# Altium integrated library Linear Technology PMIC-Switching Reg LTC1174-LTC3901.IntLib: 2647 symbols (part 220 of 310)
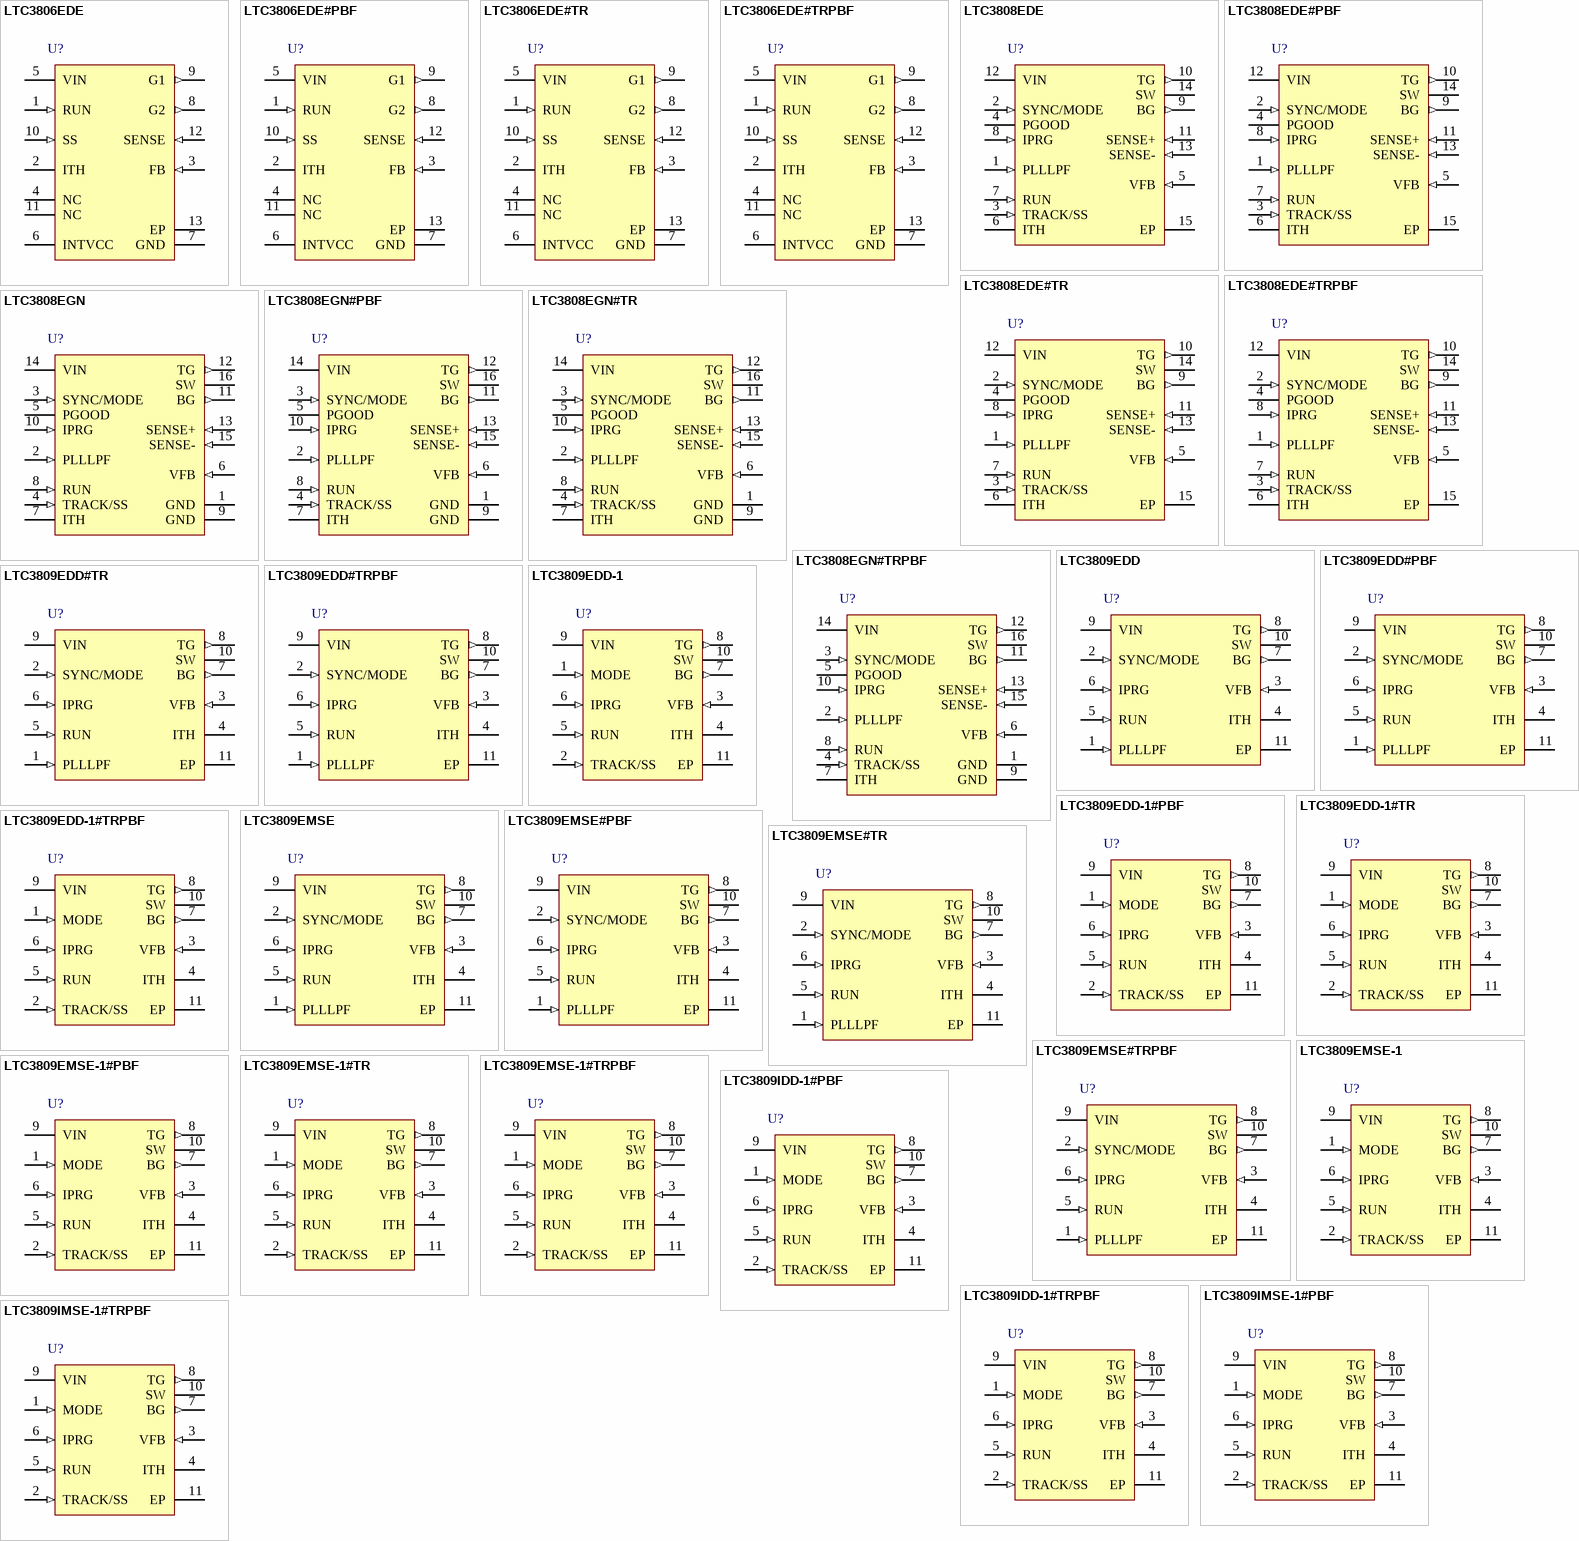
[diagram p244: symbols LTC3806EDE to LTC3809IMSE-1#TRPBF]

## LTC3809EDD-1
designator U?
No Rsense, Low Input Voltage, Synchronous DC/DC Controller with Output Tracking, 10-pin SON (DD-10), -40 to 85 degC; Manufacturer: Linear Technology; PartNumber: LTC3809EDD-1; Number of Outputs: 1; PackageReference: DD-10; PackageDescription: 10-Pin Plastic DFN, Body 3 x 3 mm, Pitch 0.5 mm; Supplier 1: Digi-Key; Supplier Part Number 1: LTC3809EDD-1-ND; RoHS: FALSE; Code_JEDEC: MO-229
footprint LT-DD-10_V (SON, 10-Leads, Body 3x3mm, Pitch 0.5mm, Thermal Pad 2.38x1.65mm)
pins: 1 MODE (in) "This pin performs two functions: 1) auxiliary winding feedback input, and 2) Burst Mode operation, pulse skipping or forced continuous mode select. To select Burst Mode operation at light loads, tie this pin to VIN. (See Datasheet)", 2 TRACK/SS (in) "Tracking Input for the Controller or Optional External Soft-Start Input. This pin allows the start-up of VOUT to “track” the external voltage at this pin using an external resistor divider. Tying this pin to VIN all(See Datasheet)", 3 VFB (in) "Feedback Pin. This pin receives the remotely sensed feedback voltage for the controller from an external resistor divider across the output.", 4 ITH "Current Threshold and Error Amplifier Compensation Point. Nominal operating range on this pin is from 0.7V to 2V. The voltage on this pin determines the threshold of the main current comparator.", 5 RUN (in) "Run Control Input. Forcing this pin below 1.1V shuts down the chip. Driving this pin to VIN or releasing this pin enables the chip to start-up with the internal soft-start.", 6 IPRG (in) "Three-State Pin to Select Maximum Peak Sense Voltage Threshold. This pin selects the maximum allowed voltage drop between the VIN and SW pins (i.e., the maximum allowed drop across the external P-channel MOSFET). Tie to VIN, (See Datasheet)", 7 BG (out) "Bottom (NMOS) Gate Drive Output. This pin drives the gate of the external N-channel MOSFET. This pin has an output swing from PGND to VIN.", 8 TG (out) "Top (PMOS) Gate Drive Output. This pin drives the gate of the external P-channel MOSFET. This pin has an output swing from PGND to VIN.", 9 VIN (power) "Chip Signal Power Supply. This pin powers the entire chip, the gate drivers and serves as the positive input to the differential current comparator.", 10 SW "Switch Node Connection to Inductor. This pin is also the negative input to the differential current comparator and an input to the reverse current comparator. Normally this pin is connected to the drain of the external (See Datasheet)", 11 EP (power) "Ground connection for internal circuits, the gate drivers and the negative input to the reverse current comparator. The Exposed Pad must be soldered to the PCB ground."

## LTC3809EDD-1#PBF
designator U?
No Rsense, Low Input Voltage, Synchronous DC/DC Controller with Output Tracking, 10-pin SON (DD-10), -40 to 85 degC, Pb-Free; Manufacturer: Linear Technology; PartNumber: LTC3809EDD-1#PBF; Number of Outputs: 1; PackageReference: DD-10; PackageDescription: 10-Pin Plastic DFN, Body 3 x 3 mm, Pitch 0.5 mm; Supplier 1: Digi-Key; Supplier Part Number 1: LTC3809EDD-1#PBF-ND; RoHS: TRUE; Code_JEDEC: MO-229
footprint LT-DD-10_V (SON, 10-Leads, Body 3x3mm, Pitch 0.5mm, Thermal Pad 2.38x1.65mm)
pins: 1 MODE (in) "This pin performs two functions: 1) auxiliary winding feedback input, and 2) Burst Mode operation, pulse skipping or forced continuous mode select. To select Burst Mode operation at light loads, tie this pin to VIN. (See Datasheet)", 2 TRACK/SS (in) "Tracking Input for the Controller or Optional External Soft-Start Input. This pin allows the start-up of VOUT to “track” the external voltage at this pin using an external resistor divider. Tying this pin to VIN all(See Datasheet)", 3 VFB (in) "Feedback Pin. This pin receives the remotely sensed feedback voltage for the controller from an external resistor divider across the output.", 4 ITH "Current Threshold and Error Amplifier Compensation Point. Nominal operating range on this pin is from 0.7V to 2V. The voltage on this pin determines the threshold of the main current comparator.", 5 RUN (in) "Run Control Input. Forcing this pin below 1.1V shuts down the chip. Driving this pin to VIN or releasing this pin enables the chip to start-up with the internal soft-start.", 6 IPRG (in) "Three-State Pin to Select Maximum Peak Sense Voltage Threshold. This pin selects the maximum allowed voltage drop between the VIN and SW pins (i.e., the maximum allowed drop across the external P-channel MOSFET). Tie to VIN, (See Datasheet)", 7 BG (out) "Bottom (NMOS) Gate Drive Output. This pin drives the gate of the external N-channel MOSFET. This pin has an output swing from PGND to VIN.", 8 TG (out) "Top (PMOS) Gate Drive Output. This pin drives the gate of the external P-channel MOSFET. This pin has an output swing from PGND to VIN.", 9 VIN (power) "Chip Signal Power Supply. This pin powers the entire chip, the gate drivers and serves as the positive input to the differential current comparator.", 10 SW "Switch Node Connection to Inductor. This pin is also the negative input to the differential current comparator and an input to the reverse current comparator. Normally this pin is connected to the drain of the external (See Datasheet)", 11 EP (power) "Ground connection for internal circuits, the gate drivers and the negative input to the reverse current comparator. The Exposed Pad must be soldered to the PCB ground."

## LTC3809EDD-1#TR
designator U?
No Rsense, Low Input Voltage, Synchronous DC/DC Controller with Output Tracking, 10-pin SON (DD-10), -40 to 85 degC, Tape and Reel; Manufacturer: Linear Technology; PartNumber: LTC3809EDD-1#TR; Number of Outputs: 1; PackageReference: DD-10; PackageDescription: 10-Pin Plastic DFN, Body 3 x 3 mm, Pitch 0.5 mm; Supplier 1: Digi-Key; Supplier Part Number 1: LTC3809EDD-1#TR-ND; RoHS: FALSE; Code_JEDEC: MO-229
footprint LT-DD-10_V (SON, 10-Leads, Body 3x3mm, Pitch 0.5mm, Thermal Pad 2.38x1.65mm)
pins: 1 MODE (in) "This pin performs two functions: 1) auxiliary winding feedback input, and 2) Burst Mode operation, pulse skipping or forced continuous mode select. To select Burst Mode operation at light loads, tie this pin to VIN. (See Datasheet)", 2 TRACK/SS (in) "Tracking Input for the Controller or Optional External Soft-Start Input. This pin allows the start-up of VOUT to “track” the external voltage at this pin using an external resistor divider. Tying this pin to VIN all(See Datasheet)", 3 VFB (in) "Feedback Pin. This pin receives the remotely sensed feedback voltage for the controller from an external resistor divider across the output.", 4 ITH "Current Threshold and Error Amplifier Compensation Point. Nominal operating range on this pin is from 0.7V to 2V. The voltage on this pin determines the threshold of the main current comparator.", 5 RUN (in) "Run Control Input. Forcing this pin below 1.1V shuts down the chip. Driving this pin to VIN or releasing this pin enables the chip to start-up with the internal soft-start.", 6 IPRG (in) "Three-State Pin to Select Maximum Peak Sense Voltage Threshold. This pin selects the maximum allowed voltage drop between the VIN and SW pins (i.e., the maximum allowed drop across the external P-channel MOSFET). Tie to VIN, (See Datasheet)", 7 BG (out) "Bottom (NMOS) Gate Drive Output. This pin drives the gate of the external N-channel MOSFET. This pin has an output swing from PGND to VIN.", 8 TG (out) "Top (PMOS) Gate Drive Output. This pin drives the gate of the external P-channel MOSFET. This pin has an output swing from PGND to VIN.", 9 VIN (power) "Chip Signal Power Supply. This pin powers the entire chip, the gate drivers and serves as the positive input to the differential current comparator.", 10 SW "Switch Node Connection to Inductor. This pin is also the negative input to the differential current comparator and an input to the reverse current comparator. Normally this pin is connected to the drain of the external (See Datasheet)", 11 EP (power) "Ground connection for internal circuits, the gate drivers and the negative input to the reverse current comparator. The Exposed Pad must be soldered to the PCB ground."

## LTC3809EDD-1#TRPBF
designator U?
No Rsense, Low Input Voltage, Synchronous DC/DC Controller with Output Tracking, 10-pin SON (DD-10), -40 to 85 degC, Pb-Free, Tape and Reel; Manufacturer: Linear Technology; PartNumber: LTC3809EDD-1#TRPBF; Number of Outputs: 1; PackageReference: DD-10; PackageDescription: 10-Pin Plastic DFN, Body 3 x 3 mm, Pitch 0.5 mm; Supplier 1: Digi-Key; Supplier Part Number 1: LTC3809EDD-1#TRPBF-ND; RoHS: TRUE; Code_JEDEC: MO-229
footprint LT-DD-10_V (SON, 10-Leads, Body 3x3mm, Pitch 0.5mm, Thermal Pad 2.38x1.65mm)
pins: 1 MODE (in) "This pin performs two functions: 1) auxiliary winding feedback input, and 2) Burst Mode operation, pulse skipping or forced continuous mode select. To select Burst Mode operation at light loads, tie this pin to VIN. (See Datasheet)", 2 TRACK/SS (in) "Tracking Input for the Controller or Optional External Soft-Start Input. This pin allows the start-up of VOUT to “track” the external voltage at this pin using an external resistor divider. Tying this pin to VIN all(See Datasheet)", 3 VFB (in) "Feedback Pin. This pin receives the remotely sensed feedback voltage for the controller from an external resistor divider across the output.", 4 ITH "Current Threshold and Error Amplifier Compensation Point. Nominal operating range on this pin is from 0.7V to 2V. The voltage on this pin determines the threshold of the main current comparator.", 5 RUN (in) "Run Control Input. Forcing this pin below 1.1V shuts down the chip. Driving this pin to VIN or releasing this pin enables the chip to start-up with the internal soft-start.", 6 IPRG (in) "Three-State Pin to Select Maximum Peak Sense Voltage Threshold. This pin selects the maximum allowed voltage drop between the VIN and SW pins (i.e., the maximum allowed drop across the external P-channel MOSFET). Tie to VIN, (See Datasheet)", 7 BG (out) "Bottom (NMOS) Gate Drive Output. This pin drives the gate of the external N-channel MOSFET. This pin has an output swing from PGND to VIN.", 8 TG (out) "Top (PMOS) Gate Drive Output. This pin drives the gate of the external P-channel MOSFET. This pin has an output swing from PGND to VIN.", 9 VIN (power) "Chip Signal Power Supply. This pin powers the entire chip, the gate drivers and serves as the positive input to the differential current comparator.", 10 SW "Switch Node Connection to Inductor. This pin is also the negative input to the differential current comparator and an input to the reverse current comparator. Normally this pin is connected to the drain of the external (See Datasheet)", 11 EP (power) "Ground connection for internal circuits, the gate drivers and the negative input to the reverse current comparator. The Exposed Pad must be soldered to the PCB ground."

## LTC3809EMSE
designator U?
No Rsense, Low EMI, Synchronous DC/DC Controller, 10-pin SOP (MSE-10-EDP), -40 to 85 degC; Manufacturer: Linear Technology; PartNumber: LTC3809EMSE; Number of Outputs: 1; PackageReference: MSE-10; PackageDescription: 10-Pin Plastic MSOP, Exposed Die Pad, Body 3 x 3 mm, Pitch 0.5 mm; Supplier 1: Digi-Key; Supplier Part Number 1: LTC3809EMSE-ND; RoHS: FALSE
footprint LT-MSE-10-EDP-2060x1830TP_N (SOP, 10-Leads, Body 3.1x3.1mm, Pitch 0.5mm, Thermal Pad 2.17x1.94mm, IPC Medium Density)
footprint LT-MSE-10-EDP-2060x1830TP_L (SOP, 10-Leads, Body 3.1x3.1mm, Pitch 0.5mm, Thermal Pad 2.17x1.94mm, IPC High Density)
footprint LT-MSE-10-EDP-2060x1830TP_M (SOP, 10-Leads, Body 3.1x3.1mm, Pitch 0.5mm, Thermal Pad 2.17x1.94mm, IPC Low Density)
pins: 1 PLLLPF (in) "Frequency Set/PLL Lowpass Filter. When synchronizing to an external clock, this pin serves as the lowpass filter point for the phase-locked loop. Normally, a series RC is connected between this pin and ground. When not (See Datasheet)", 2 SYNC/MODE (in), 3 VFB (in) "Feedback Pin. This pin receives the remotely sensed feedback voltage for the controller from an external resistor divider across the output.", 4 ITH "Current Threshold and Error Amplifier Compensation Point. Nominal operating range on this pin is from 0.7V to 2V. The voltage on this pin determines the threshold of the main current comparator.", 5 RUN (in) "Run Control Input. Forcing this pin below 1.1V shuts down the chip. Driving this pin to VIN or releasing this pin enables the chip to start-up with the internal soft-start.", 6 IPRG (in) "Three-State Pin to Select Maximum Peak Sense Voltage Threshold. This pin selects the maximum allowed voltage drop between the VIN and SW pins (i.e., the maximum allowed drop across the external P-channel MOSFET). Tie to VIN, (See Datasheet)", 7 BG (out) "Bottom (NMOS) Gate Drive Output. This pin drives the gate of the external N-channel MOSFET. This pin has an output swing from PGND to VIN.", 8 TG (out) "Top (PMOS) Gate Drive Output. This pin drives the gate of the external P-channel MOSFET. This pin has an output swing from PGND to VIN.", 9 VIN (power) "Chip Signal Power Supply. This pin powers the entire chip, the gate drivers and serves as the positive input to the differential current comparator.", 10 SW "Switch Node Connection to Inductor. This pin is also the negative input to the differential current comparator and an input to the reverse current comparator. Normally this pin is connected to the drain of the external (See Datasheet)", 11 EP (power) "Exposed Pad. The Exposed Pad is ground and must be soldered to the PCB ground for electrical contact and optimum thermal performance."

## LTC3809EMSE#PBF
designator U?
No Rsense, Low EMI, Synchronous DC/DC Controller, 10-pin SOP (MSE-10-EDP), -40 to 85 degC, Pb-Free; Manufacturer: Linear Technology; PartNumber: LTC3809EMSE#PBF; Number of Outputs: 1; PackageReference: MSE-10; PackageDescription: 10-Pin Plastic MSOP, Exposed Die Pad, Body 3 x 3 mm, Pitch 0.5 mm; Supplier 1: Digi-Key; Supplier Part Number 1: LTC3809EMSE#PBF-ND; RoHS: TRUE
footprint LT-MSE-10-EDP-2060x1830TP_N (SOP, 10-Leads, Body 3.1x3.1mm, Pitch 0.5mm, Thermal Pad 2.17x1.94mm, IPC Medium Density)
footprint LT-MSE-10-EDP-2060x1830TP_L (SOP, 10-Leads, Body 3.1x3.1mm, Pitch 0.5mm, Thermal Pad 2.17x1.94mm, IPC High Density)
footprint LT-MSE-10-EDP-2060x1830TP_M (SOP, 10-Leads, Body 3.1x3.1mm, Pitch 0.5mm, Thermal Pad 2.17x1.94mm, IPC Low Density)
pins: 1 PLLLPF (in) "Frequency Set/PLL Lowpass Filter. When synchronizing to an external clock, this pin serves as the lowpass filter point for the phase-locked loop. Normally, a series RC is connected between this pin and ground. When not (See Datasheet)", 2 SYNC/MODE (in), 3 VFB (in) "Feedback Pin. This pin receives the remotely sensed feedback voltage for the controller from an external resistor divider across the output.", 4 ITH "Current Threshold and Error Amplifier Compensation Point. Nominal operating range on this pin is from 0.7V to 2V. The voltage on this pin determines the threshold of the main current comparator.", 5 RUN (in) "Run Control Input. Forcing this pin below 1.1V shuts down the chip. Driving this pin to VIN or releasing this pin enables the chip to start-up with the internal soft-start.", 6 IPRG (in) "Three-State Pin to Select Maximum Peak Sense Voltage Threshold. This pin selects the maximum allowed voltage drop between the VIN and SW pins (i.e., the maximum allowed drop across the external P-channel MOSFET). Tie to VIN, (See Datasheet)", 7 BG (out) "Bottom (NMOS) Gate Drive Output. This pin drives the gate of the external N-channel MOSFET. This pin has an output swing from PGND to VIN.", 8 TG (out) "Top (PMOS) Gate Drive Output. This pin drives the gate of the external P-channel MOSFET. This pin has an output swing from PGND to VIN.", 9 VIN (power) "Chip Signal Power Supply. This pin powers the entire chip, the gate drivers and serves as the positive input to the differential current comparator.", 10 SW "Switch Node Connection to Inductor. This pin is also the negative input to the differential current comparator and an input to the reverse current comparator. Normally this pin is connected to the drain of the external (See Datasheet)", 11 EP (power) "Exposed Pad. The Exposed Pad is ground and must be soldered to the PCB ground for electrical contact and optimum thermal performance."

## LTC3809EMSE#TR
designator U?
No Rsense, Low EMI, Synchronous DC/DC Controller, 10-pin SOP (MSE-10-EDP), -40 to 85 degC, Tape and Reel; Manufacturer: Linear Technology; PartNumber: LTC3809EMSE#TR; Number of Outputs: 1; PackageReference: MSE-10; PackageDescription: 10-Pin Plastic MSOP, Exposed Die Pad, Body 3 x 3 mm, Pitch 0.5 mm; Supplier 1: Digi-Key; Supplier Part Number 1: LTC3809EMSE#TR-ND; RoHS: FALSE
footprint LT-MSE-10-EDP-2060x1830TP_N (SOP, 10-Leads, Body 3.1x3.1mm, Pitch 0.5mm, Thermal Pad 2.17x1.94mm, IPC Medium Density)
footprint LT-MSE-10-EDP-2060x1830TP_L (SOP, 10-Leads, Body 3.1x3.1mm, Pitch 0.5mm, Thermal Pad 2.17x1.94mm, IPC High Density)
footprint LT-MSE-10-EDP-2060x1830TP_M (SOP, 10-Leads, Body 3.1x3.1mm, Pitch 0.5mm, Thermal Pad 2.17x1.94mm, IPC Low Density)
pins: 1 PLLLPF (in) "Frequency Set/PLL Lowpass Filter. When synchronizing to an external clock, this pin serves as the lowpass filter point for the phase-locked loop. Normally, a series RC is connected between this pin and ground. When not (See Datasheet)", 2 SYNC/MODE (in), 3 VFB (in) "Feedback Pin. This pin receives the remotely sensed feedback voltage for the controller from an external resistor divider across the output.", 4 ITH "Current Threshold and Error Amplifier Compensation Point. Nominal operating range on this pin is from 0.7V to 2V. The voltage on this pin determines the threshold of the main current comparator.", 5 RUN (in) "Run Control Input. Forcing this pin below 1.1V shuts down the chip. Driving this pin to VIN or releasing this pin enables the chip to start-up with the internal soft-start.", 6 IPRG (in) "Three-State Pin to Select Maximum Peak Sense Voltage Threshold. This pin selects the maximum allowed voltage drop between the VIN and SW pins (i.e., the maximum allowed drop across the external P-channel MOSFET). Tie to VIN, (See Datasheet)", 7 BG (out) "Bottom (NMOS) Gate Drive Output. This pin drives the gate of the external N-channel MOSFET. This pin has an output swing from PGND to VIN.", 8 TG (out) "Top (PMOS) Gate Drive Output. This pin drives the gate of the external P-channel MOSFET. This pin has an output swing from PGND to VIN.", 9 VIN (power) "Chip Signal Power Supply. This pin powers the entire chip, the gate drivers and serves as the positive input to the differential current comparator.", 10 SW "Switch Node Connection to Inductor. This pin is also the negative input to the differential current comparator and an input to the reverse current comparator. Normally this pin is connected to the drain of the external (See Datasheet)", 11 EP (power) "Exposed Pad. The Exposed Pad is ground and must be soldered to the PCB ground for electrical contact and optimum thermal performance."

## LTC3809EMSE#TRPBF
designator U?
No Rsense, Low EMI, Synchronous DC/DC Controller, 10-pin SOP (MSE-10-EDP), -40 to 85 degC, Pb-Free, Tape and Reel; Manufacturer: Linear Technology; PartNumber: LTC3809EMSE#TRPBF; Number of Outputs: 1; PackageReference: MSE-10; PackageDescription: 10-Pin Plastic MSOP, Exposed Die Pad, Body 3 x 3 mm, Pitch 0.5 mm; Supplier 1: Digi-Key; Supplier Part Number 1: LTC3809EMSE#TRPBF-ND; RoHS: TRUE
footprint LT-MSE-10-EDP-2060x1830TP_N (SOP, 10-Leads, Body 3.1x3.1mm, Pitch 0.5mm, Thermal Pad 2.17x1.94mm, IPC Medium Density)
footprint LT-MSE-10-EDP-2060x1830TP_L (SOP, 10-Leads, Body 3.1x3.1mm, Pitch 0.5mm, Thermal Pad 2.17x1.94mm, IPC High Density)
footprint LT-MSE-10-EDP-2060x1830TP_M (SOP, 10-Leads, Body 3.1x3.1mm, Pitch 0.5mm, Thermal Pad 2.17x1.94mm, IPC Low Density)
pins: 1 PLLLPF (in) "Frequency Set/PLL Lowpass Filter. When synchronizing to an external clock, this pin serves as the lowpass filter point for the phase-locked loop. Normally, a series RC is connected between this pin and ground. When not (See Datasheet)", 2 SYNC/MODE (in), 3 VFB (in) "Feedback Pin. This pin receives the remotely sensed feedback voltage for the controller from an external resistor divider across the output.", 4 ITH "Current Threshold and Error Amplifier Compensation Point. Nominal operating range on this pin is from 0.7V to 2V. The voltage on this pin determines the threshold of the main current comparator.", 5 RUN (in) "Run Control Input. Forcing this pin below 1.1V shuts down the chip. Driving this pin to VIN or releasing this pin enables the chip to start-up with the internal soft-start.", 6 IPRG (in) "Three-State Pin to Select Maximum Peak Sense Voltage Threshold. This pin selects the maximum allowed voltage drop between the VIN and SW pins (i.e., the maximum allowed drop across the external P-channel MOSFET). Tie to VIN, (See Datasheet)", 7 BG (out) "Bottom (NMOS) Gate Drive Output. This pin drives the gate of the external N-channel MOSFET. This pin has an output swing from PGND to VIN.", 8 TG (out) "Top (PMOS) Gate Drive Output. This pin drives the gate of the external P-channel MOSFET. This pin has an output swing from PGND to VIN.", 9 VIN (power) "Chip Signal Power Supply. This pin powers the entire chip, the gate drivers and serves as the positive input to the differential current comparator.", 10 SW "Switch Node Connection to Inductor. This pin is also the negative input to the differential current comparator and an input to the reverse current comparator. Normally this pin is connected to the drain of the external (See Datasheet)", 11 EP (power) "Exposed Pad. The Exposed Pad is ground and must be soldered to the PCB ground for electrical contact and optimum thermal performance."

## LTC3809EMSE-1
designator U?
No Rsense, Low Input Voltage, Synchronous DC/DC Controller with Output Tracking, 10-pin SOP (MSE-10-EDP), -40 to 85 degC; Manufacturer: Linear Technology; PartNumber: LTC3809EMSE-1; Number of Outputs: 1; PackageReference: MSE-10; PackageDescription: 10-Pin Plastic MSOP, Exposed Die Pad, Body 3 x 3 mm, Pitch 0.5 mm; Supplier 1: Digi-Key; Supplier Part Number 1: LTC3809EMSE-1-ND; RoHS: FALSE
footprint LT-MSE-10-EDP-2060x1830TP_N (SOP, 10-Leads, Body 3.1x3.1mm, Pitch 0.5mm, Thermal Pad 2.17x1.94mm, IPC Medium Density)
footprint LT-MSE-10-EDP-2060x1830TP_L (SOP, 10-Leads, Body 3.1x3.1mm, Pitch 0.5mm, Thermal Pad 2.17x1.94mm, IPC High Density)
footprint LT-MSE-10-EDP-2060x1830TP_M (SOP, 10-Leads, Body 3.1x3.1mm, Pitch 0.5mm, Thermal Pad 2.17x1.94mm, IPC Low Density)
pins: 1 MODE (in) "This pin performs two functions: 1) auxiliary winding feedback input, and 2) Burst Mode operation, pulse skipping or forced continuous mode select. To select Burst Mode operation at light loads, tie this pin to VIN. (See Datasheet)", 2 TRACK/SS (in) "Tracking Input for the Controller or Optional External Soft-Start Input. This pin allows the start-up of VOUT to “track” the external voltage at this pin using an external resistor divider. Tying this pin to VIN all(See Datasheet)", 3 VFB (in) "Feedback Pin. This pin receives the remotely sensed feedback voltage for the controller from an external resistor divider across the output.", 4 ITH "Current Threshold and Error Amplifier Compensation Point. Nominal operating range on this pin is from 0.7V to 2V. The voltage on this pin determines the threshold of the main current comparator.", 5 RUN (in) "Run Control Input. Forcing this pin below 1.1V shuts down the chip. Driving this pin to VIN or releasing this pin enables the chip to start-up with the internal soft-start.", 6 IPRG (in) "Three-State Pin to Select Maximum Peak Sense Voltage Threshold. This pin selects the maximum allowed voltage drop between the VIN and SW pins (i.e., the maximum allowed drop across the external P-channel MOSFET). Tie to VIN, (See Datasheet)", 7 BG (out) "Bottom (NMOS) Gate Drive Output. This pin drives the gate of the external N-channel MOSFET. This pin has an output swing from PGND to VIN.", 8 TG (out) "Top (PMOS) Gate Drive Output. This pin drives the gate of the external P-channel MOSFET. This pin has an output swing from PGND to VIN.", 9 VIN (power) "Chip Signal Power Supply. This pin powers the entire chip, the gate drivers and serves as the positive input to the differential current comparator.", 10 SW "Switch Node Connection to Inductor. This pin is also the negative input to the differential current comparator and an input to the reverse current comparator. Normally this pin is connected to the drain of the external (See Datasheet)", 11 EP (power) "Ground connection for internal circuits, the gate drivers and the negative input to the reverse current comparator. The Exposed Pad must be soldered to the PCB ground."

## LTC3809EMSE-1#PBF
designator U?
No Rsense, Low Input Voltage, Synchronous DC/DC Controller with Output Tracking, 10-pin SOP (MSE-10-EDP), -40 to 85 degC, Pb-Free; Manufacturer: Linear Technology; PartNumber: LTC3809EMSE-1#PBF; Number of Outputs: 1; PackageReference: MSE-10; PackageDescription: 10-Pin Plastic MSOP, Exposed Die Pad, Body 3 x 3 mm, Pitch 0.5 mm; Supplier 1: Digi-Key; Supplier Part Number 1: LTC3809EMSE-1#PBF-ND; RoHS: TRUE
footprint LT-MSE-10-EDP-2060x1830TP_N (SOP, 10-Leads, Body 3.1x3.1mm, Pitch 0.5mm, Thermal Pad 2.17x1.94mm, IPC Medium Density)
footprint LT-MSE-10-EDP-2060x1830TP_L (SOP, 10-Leads, Body 3.1x3.1mm, Pitch 0.5mm, Thermal Pad 2.17x1.94mm, IPC High Density)
footprint LT-MSE-10-EDP-2060x1830TP_M (SOP, 10-Leads, Body 3.1x3.1mm, Pitch 0.5mm, Thermal Pad 2.17x1.94mm, IPC Low Density)
pins: 1 MODE (in) "This pin performs two functions: 1) auxiliary winding feedback input, and 2) Burst Mode operation, pulse skipping or forced continuous mode select. To select Burst Mode operation at light loads, tie this pin to VIN. (See Datasheet)", 2 TRACK/SS (in) "Tracking Input for the Controller or Optional External Soft-Start Input. This pin allows the start-up of VOUT to “track” the external voltage at this pin using an external resistor divider. Tying this pin to VIN all(See Datasheet)", 3 VFB (in) "Feedback Pin. This pin receives the remotely sensed feedback voltage for the controller from an external resistor divider across the output.", 4 ITH "Current Threshold and Error Amplifier Compensation Point. Nominal operating range on this pin is from 0.7V to 2V. The voltage on this pin determines the threshold of the main current comparator.", 5 RUN (in) "Run Control Input. Forcing this pin below 1.1V shuts down the chip. Driving this pin to VIN or releasing this pin enables the chip to start-up with the internal soft-start.", 6 IPRG (in) "Three-State Pin to Select Maximum Peak Sense Voltage Threshold. This pin selects the maximum allowed voltage drop between the VIN and SW pins (i.e., the maximum allowed drop across the external P-channel MOSFET). Tie to VIN, (See Datasheet)", 7 BG (out) "Bottom (NMOS) Gate Drive Output. This pin drives the gate of the external N-channel MOSFET. This pin has an output swing from PGND to VIN.", 8 TG (out) "Top (PMOS) Gate Drive Output. This pin drives the gate of the external P-channel MOSFET. This pin has an output swing from PGND to VIN.", 9 VIN (power) "Chip Signal Power Supply. This pin powers the entire chip, the gate drivers and serves as the positive input to the differential current comparator.", 10 SW "Switch Node Connection to Inductor. This pin is also the negative input to the differential current comparator and an input to the reverse current comparator. Normally this pin is connected to the drain of the external (See Datasheet)", 11 EP (power) "Ground connection for internal circuits, the gate drivers and the negative input to the reverse current comparator. The Exposed Pad must be soldered to the PCB ground."

## LTC3809EMSE-1#TR
designator U?
No Rsense, Low Input Voltage, Synchronous DC/DC Controller with Output Tracking, 10-pin SOP (MSE-10-EDP), -40 to 85 degC, Tape and Reel; Manufacturer: Linear Technology; PartNumber: LTC3809EMSE-1#TR; Number of Outputs: 1; PackageReference: MSE-10; PackageDescription: 10-Pin Plastic MSOP, Exposed Die Pad, Body 3 x 3 mm, Pitch 0.5 mm; Supplier 1: Digi-Key; Supplier Part Number 1: LTC3809EMSE-1#TR-ND; RoHS: FALSE
footprint LT-MSE-10-EDP-2060x1830TP_N (SOP, 10-Leads, Body 3.1x3.1mm, Pitch 0.5mm, Thermal Pad 2.17x1.94mm, IPC Medium Density)
footprint LT-MSE-10-EDP-2060x1830TP_L (SOP, 10-Leads, Body 3.1x3.1mm, Pitch 0.5mm, Thermal Pad 2.17x1.94mm, IPC High Density)
footprint LT-MSE-10-EDP-2060x1830TP_M (SOP, 10-Leads, Body 3.1x3.1mm, Pitch 0.5mm, Thermal Pad 2.17x1.94mm, IPC Low Density)
pins: 1 MODE (in) "This pin performs two functions: 1) auxiliary winding feedback input, and 2) Burst Mode operation, pulse skipping or forced continuous mode select. To select Burst Mode operation at light loads, tie this pin to VIN. (See Datasheet)", 2 TRACK/SS (in) "Tracking Input for the Controller or Optional External Soft-Start Input. This pin allows the start-up of VOUT to “track” the external voltage at this pin using an external resistor divider. Tying this pin to VIN all(See Datasheet)", 3 VFB (in) "Feedback Pin. This pin receives the remotely sensed feedback voltage for the controller from an external resistor divider across the output.", 4 ITH "Current Threshold and Error Amplifier Compensation Point. Nominal operating range on this pin is from 0.7V to 2V. The voltage on this pin determines the threshold of the main current comparator.", 5 RUN (in) "Run Control Input. Forcing this pin below 1.1V shuts down the chip. Driving this pin to VIN or releasing this pin enables the chip to start-up with the internal soft-start.", 6 IPRG (in) "Three-State Pin to Select Maximum Peak Sense Voltage Threshold. This pin selects the maximum allowed voltage drop between the VIN and SW pins (i.e., the maximum allowed drop across the external P-channel MOSFET). Tie to VIN, (See Datasheet)", 7 BG (out) "Bottom (NMOS) Gate Drive Output. This pin drives the gate of the external N-channel MOSFET. This pin has an output swing from PGND to VIN.", 8 TG (out) "Top (PMOS) Gate Drive Output. This pin drives the gate of the external P-channel MOSFET. This pin has an output swing from PGND to VIN.", 9 VIN (power) "Chip Signal Power Supply. This pin powers the entire chip, the gate drivers and serves as the positive input to the differential current comparator.", 10 SW "Switch Node Connection to Inductor. This pin is also the negative input to the differential current comparator and an input to the reverse current comparator. Normally this pin is connected to the drain of the external (See Datasheet)", 11 EP (power) "Ground connection for internal circuits, the gate drivers and the negative input to the reverse current comparator. The Exposed Pad must be soldered to the PCB ground."

## LTC3809EMSE-1#TRPBF
designator U?
No Rsense, Low Input Voltage, Synchronous DC/DC Controller with Output Tracking, 10-pin SOP (MSE-10-EDP), -40 to 85 degC, Pb-Free, Tape and Reel; Manufacturer: Linear Technology; PartNumber: LTC3809EMSE-1#TRPBF; Number of Outputs: 1; PackageReference: MSE-10; PackageDescription: 10-Pin Plastic MSOP, Exposed Die Pad, Body 3 x 3 mm, Pitch 0.5 mm; Supplier 1: Digi-Key; Supplier Part Number 1: LTC3809EMSE-1#TRPBF-ND; RoHS: TRUE
footprint LT-MSE-10-EDP-2060x1830TP_N (SOP, 10-Leads, Body 3.1x3.1mm, Pitch 0.5mm, Thermal Pad 2.17x1.94mm, IPC Medium Density)
footprint LT-MSE-10-EDP-2060x1830TP_L (SOP, 10-Leads, Body 3.1x3.1mm, Pitch 0.5mm, Thermal Pad 2.17x1.94mm, IPC High Density)
footprint LT-MSE-10-EDP-2060x1830TP_M (SOP, 10-Leads, Body 3.1x3.1mm, Pitch 0.5mm, Thermal Pad 2.17x1.94mm, IPC Low Density)
pins: 1 MODE (in) "This pin performs two functions: 1) auxiliary winding feedback input, and 2) Burst Mode operation, pulse skipping or forced continuous mode select. To select Burst Mode operation at light loads, tie this pin to VIN. (See Datasheet)", 2 TRACK/SS (in) "Tracking Input for the Controller or Optional External Soft-Start Input. This pin allows the start-up of VOUT to “track” the external voltage at this pin using an external resistor divider. Tying this pin to VIN all(See Datasheet)", 3 VFB (in) "Feedback Pin. This pin receives the remotely sensed feedback voltage for the controller from an external resistor divider across the output.", 4 ITH "Current Threshold and Error Amplifier Compensation Point. Nominal operating range on this pin is from 0.7V to 2V. The voltage on this pin determines the threshold of the main current comparator.", 5 RUN (in) "Run Control Input. Forcing this pin below 1.1V shuts down the chip. Driving this pin to VIN or releasing this pin enables the chip to start-up with the internal soft-start.", 6 IPRG (in) "Three-State Pin to Select Maximum Peak Sense Voltage Threshold. This pin selects the maximum allowed voltage drop between the VIN and SW pins (i.e., the maximum allowed drop across the external P-channel MOSFET). Tie to VIN, (See Datasheet)", 7 BG (out) "Bottom (NMOS) Gate Drive Output. This pin drives the gate of the external N-channel MOSFET. This pin has an output swing from PGND to VIN.", 8 TG (out) "Top (PMOS) Gate Drive Output. This pin drives the gate of the external P-channel MOSFET. This pin has an output swing from PGND to VIN.", 9 VIN (power) "Chip Signal Power Supply. This pin powers the entire chip, the gate drivers and serves as the positive input to the differential current comparator.", 10 SW "Switch Node Connection to Inductor. This pin is also the negative input to the differential current comparator and an input to the reverse current comparator. Normally this pin is connected to the drain of the external (See Datasheet)", 11 EP (power) "Ground connection for internal circuits, the gate drivers and the negative input to the reverse current comparator. The Exposed Pad must be soldered to the PCB ground."

## LTC3809IDD-1#PBF
designator U?
No Rsense, Low Input Voltage, Synchronous DC/DC Controller with Output Tracking, 10-pin SON (DD-10), -40 to 85 degC, Pb-Free; Manufacturer: Linear Technology; PartNumber: LTC3809IDD-1#PBF; Number of Outputs: 1; PackageReference: DD-10; PackageDescription: 10-Pin Plastic DFN, Body 3 x 3 mm, Pitch 0.5 mm; Supplier 1: Digi-Key; Supplier Part Number 1: LTC3809IDD-1#PBF-ND; RoHS: TRUE; Code_JEDEC: MO-229
footprint LT-DD-10_V (SON, 10-Leads, Body 3x3mm, Pitch 0.5mm, Thermal Pad 2.38x1.65mm)
pins: 1 MODE (in) "This pin performs two functions: 1) auxiliary winding feedback input, and 2) Burst Mode operation, pulse skipping or forced continuous mode select. To select Burst Mode operation at light loads, tie this pin to VIN. (See Datasheet)", 2 TRACK/SS (in) "Tracking Input for the Controller or Optional External Soft-Start Input. This pin allows the start-up of VOUT to “track” the external voltage at this pin using an external resistor divider. Tying this pin to VIN all(See Datasheet)", 3 VFB (in) "Feedback Pin. This pin receives the remotely sensed feedback voltage for the controller from an external resistor divider across the output.", 4 ITH "Current Threshold and Error Amplifier Compensation Point. Nominal operating range on this pin is from 0.7V to 2V. The voltage on this pin determines the threshold of the main current comparator.", 5 RUN (in) "Run Control Input. Forcing this pin below 1.1V shuts down the chip. Driving this pin to VIN or releasing this pin enables the chip to start-up with the internal soft-start.", 6 IPRG (in) "Three-State Pin to Select Maximum Peak Sense Voltage Threshold. This pin selects the maximum allowed voltage drop between the VIN and SW pins (i.e., the maximum allowed drop across the external P-channel MOSFET). Tie to VIN, (See Datasheet)", 7 BG (out) "Bottom (NMOS) Gate Drive Output. This pin drives the gate of the external N-channel MOSFET. This pin has an output swing from PGND to VIN.", 8 TG (out) "Top (PMOS) Gate Drive Output. This pin drives the gate of the external P-channel MOSFET. This pin has an output swing from PGND to VIN.", 9 VIN (power) "Chip Signal Power Supply. This pin powers the entire chip, the gate drivers and serves as the positive input to the differential current comparator.", 10 SW "Switch Node Connection to Inductor. This pin is also the negative input to the differential current comparator and an input to the reverse current comparator. Normally this pin is connected to the drain of the external (See Datasheet)", 11 EP (power) "Ground connection for internal circuits, the gate drivers and the negative input to the reverse current comparator. The Exposed Pad must be soldered to the PCB ground."

## LTC3809IDD-1#TRPBF
designator U?
No Rsense, Low Input Voltage, Synchronous DC/DC Controller with Output Tracking, 10-pin SON (DD-10), -40 to 85 degC, Pb-Free, Tape and Reel; Manufacturer: Linear Technology; PartNumber: LTC3809IDD-1#TRPBF; Number of Outputs: 1; PackageReference: DD-10; PackageDescription: 10-Pin Plastic DFN, Body 3 x 3 mm, Pitch 0.5 mm; Supplier 1: Digi-Key; Supplier Part Number 1: LTC3809IDD-1#TRPBF-ND; RoHS: TRUE; Code_JEDEC: MO-229
footprint LT-DD-10_V (SON, 10-Leads, Body 3x3mm, Pitch 0.5mm, Thermal Pad 2.38x1.65mm)
pins: 1 MODE (in) "This pin performs two functions: 1) auxiliary winding feedback input, and 2) Burst Mode operation, pulse skipping or forced continuous mode select. To select Burst Mode operation at light loads, tie this pin to VIN. (See Datasheet)", 2 TRACK/SS (in) "Tracking Input for the Controller or Optional External Soft-Start Input. This pin allows the start-up of VOUT to “track” the external voltage at this pin using an external resistor divider. Tying this pin to VIN all(See Datasheet)", 3 VFB (in) "Feedback Pin. This pin receives the remotely sensed feedback voltage for the controller from an external resistor divider across the output.", 4 ITH "Current Threshold and Error Amplifier Compensation Point. Nominal operating range on this pin is from 0.7V to 2V. The voltage on this pin determines the threshold of the main current comparator.", 5 RUN (in) "Run Control Input. Forcing this pin below 1.1V shuts down the chip. Driving this pin to VIN or releasing this pin enables the chip to start-up with the internal soft-start.", 6 IPRG (in) "Three-State Pin to Select Maximum Peak Sense Voltage Threshold. This pin selects the maximum allowed voltage drop between the VIN and SW pins (i.e., the maximum allowed drop across the external P-channel MOSFET). Tie to VIN, (See Datasheet)", 7 BG (out) "Bottom (NMOS) Gate Drive Output. This pin drives the gate of the external N-channel MOSFET. This pin has an output swing from PGND to VIN.", 8 TG (out) "Top (PMOS) Gate Drive Output. This pin drives the gate of the external P-channel MOSFET. This pin has an output swing from PGND to VIN.", 9 VIN (power) "Chip Signal Power Supply. This pin powers the entire chip, the gate drivers and serves as the positive input to the differential current comparator.", 10 SW "Switch Node Connection to Inductor. This pin is also the negative input to the differential current comparator and an input to the reverse current comparator. Normally this pin is connected to the drain of the external (See Datasheet)", 11 EP (power) "Ground connection for internal circuits, the gate drivers and the negative input to the reverse current comparator. The Exposed Pad must be soldered to the PCB ground."

## LTC3809IMSE-1#PBF
designator U?
No Rsense, Low Input Voltage, Synchronous DC/DC Controller with Output Tracking, 10-pin SOP (MSE-10-EDP), -40 to 85 degC, Pb-Free; Manufacturer: Linear Technology; PartNumber: LTC3809IMSE-1#PBF; Number of Outputs: 1; PackageReference: MSE-10; PackageDescription: 10-Pin Plastic MSOP, Exposed Die Pad, Body 3 x 3 mm, Pitch 0.5 mm; Supplier 1: Digi-Key; Supplier Part Number 1: LTC3809IMSE-1#PBF-ND; RoHS: TRUE
footprint LT-MSE-10-EDP-2060x1830TP_N (SOP, 10-Leads, Body 3.1x3.1mm, Pitch 0.5mm, Thermal Pad 2.17x1.94mm, IPC Medium Density)
footprint LT-MSE-10-EDP-2060x1830TP_L (SOP, 10-Leads, Body 3.1x3.1mm, Pitch 0.5mm, Thermal Pad 2.17x1.94mm, IPC High Density)
footprint LT-MSE-10-EDP-2060x1830TP_M (SOP, 10-Leads, Body 3.1x3.1mm, Pitch 0.5mm, Thermal Pad 2.17x1.94mm, IPC Low Density)
pins: 1 MODE (in) "This pin performs two functions: 1) auxiliary winding feedback input, and 2) Burst Mode operation, pulse skipping or forced continuous mode select. To select Burst Mode operation at light loads, tie this pin to VIN. (See Datasheet)", 2 TRACK/SS (in) "Tracking Input for the Controller or Optional External Soft-Start Input. This pin allows the start-up of VOUT to “track” the external voltage at this pin using an external resistor divider. Tying this pin to VIN all(See Datasheet)", 3 VFB (in) "Feedback Pin. This pin receives the remotely sensed feedback voltage for the controller from an external resistor divider across the output.", 4 ITH "Current Threshold and Error Amplifier Compensation Point. Nominal operating range on this pin is from 0.7V to 2V. The voltage on this pin determines the threshold of the main current comparator.", 5 RUN (in) "Run Control Input. Forcing this pin below 1.1V shuts down the chip. Driving this pin to VIN or releasing this pin enables the chip to start-up with the internal soft-start.", 6 IPRG (in) "Three-State Pin to Select Maximum Peak Sense Voltage Threshold. This pin selects the maximum allowed voltage drop between the VIN and SW pins (i.e., the maximum allowed drop across the external P-channel MOSFET). Tie to VIN, (See Datasheet)", 7 BG (out) "Bottom (NMOS) Gate Drive Output. This pin drives the gate of the external N-channel MOSFET. This pin has an output swing from PGND to VIN.", 8 TG (out) "Top (PMOS) Gate Drive Output. This pin drives the gate of the external P-channel MOSFET. This pin has an output swing from PGND to VIN.", 9 VIN (power) "Chip Signal Power Supply. This pin powers the entire chip, the gate drivers and serves as the positive input to the differential current comparator.", 10 SW "Switch Node Connection to Inductor. This pin is also the negative input to the differential current comparator and an input to the reverse current comparator. Normally this pin is connected to the drain of the external (See Datasheet)", 11 EP (power) "Ground connection for internal circuits, the gate drivers and the negative input to the reverse current comparator. The Exposed Pad must be soldered to the PCB ground."

## LTC3809IMSE-1#TRPBF
designator U?
No Rsense, Low Input Voltage, Synchronous DC/DC Controller with Output Tracking, 10-pin SOP (MSE-10-EDP), -40 to 85 degC, Pb-Free, Tape and Reel; Manufacturer: Linear Technology; PartNumber: LTC3809IMSE-1#TRPBF; Number of Outputs: 1; PackageReference: MSE-10; PackageDescription: 10-Pin Plastic MSOP, Exposed Die Pad, Body 3 x 3 mm, Pitch 0.5 mm; Supplier 1: Digi-Key; Supplier Part Number 1: LTC3809IMSE-1#TRPBF-ND; RoHS: TRUE
footprint LT-MSE-10-EDP-2060x1830TP_N (SOP, 10-Leads, Body 3.1x3.1mm, Pitch 0.5mm, Thermal Pad 2.17x1.94mm, IPC Medium Density)
footprint LT-MSE-10-EDP-2060x1830TP_L (SOP, 10-Leads, Body 3.1x3.1mm, Pitch 0.5mm, Thermal Pad 2.17x1.94mm, IPC High Density)
footprint LT-MSE-10-EDP-2060x1830TP_M (SOP, 10-Leads, Body 3.1x3.1mm, Pitch 0.5mm, Thermal Pad 2.17x1.94mm, IPC Low Density)
pins: 1 MODE (in) "This pin performs two functions: 1) auxiliary winding feedback input, and 2) Burst Mode operation, pulse skipping or forced continuous mode select. To select Burst Mode operation at light loads, tie this pin to VIN. (See Datasheet)", 2 TRACK/SS (in) "Tracking Input for the Controller or Optional External Soft-Start Input. This pin allows the start-up of VOUT to “track” the external voltage at this pin using an external resistor divider. Tying this pin to VIN all(See Datasheet)", 3 VFB (in) "Feedback Pin. This pin receives the remotely sensed feedback voltage for the controller from an external resistor divider across the output.", 4 ITH "Current Threshold and Error Amplifier Compensation Point. Nominal operating range on this pin is from 0.7V to 2V. The voltage on this pin determines the threshold of the main current comparator.", 5 RUN (in) "Run Control Input. Forcing this pin below 1.1V shuts down the chip. Driving this pin to VIN or releasing this pin enables the chip to start-up with the internal soft-start.", 6 IPRG (in) "Three-State Pin to Select Maximum Peak Sense Voltage Threshold. This pin selects the maximum allowed voltage drop between the VIN and SW pins (i.e., the maximum allowed drop across the external P-channel MOSFET). Tie to VIN, (See Datasheet)", 7 BG (out) "Bottom (NMOS) Gate Drive Output. This pin drives the gate of the external N-channel MOSFET. This pin has an output swing from PGND to VIN.", 8 TG (out) "Top (PMOS) Gate Drive Output. This pin drives the gate of the external P-channel MOSFET. This pin has an output swing from PGND to VIN.", 9 VIN (power) "Chip Signal Power Supply. This pin powers the entire chip, the gate drivers and serves as the positive input to the differential current comparator.", 10 SW "Switch Node Connection to Inductor. This pin is also the negative input to the differential current comparator and an input to the reverse current comparator. Normally this pin is connected to the drain of the external (See Datasheet)", 11 EP (power) "Ground connection for internal circuits, the gate drivers and the negative input to the reverse current comparator. The Exposed Pad must be soldered to the PCB ground."

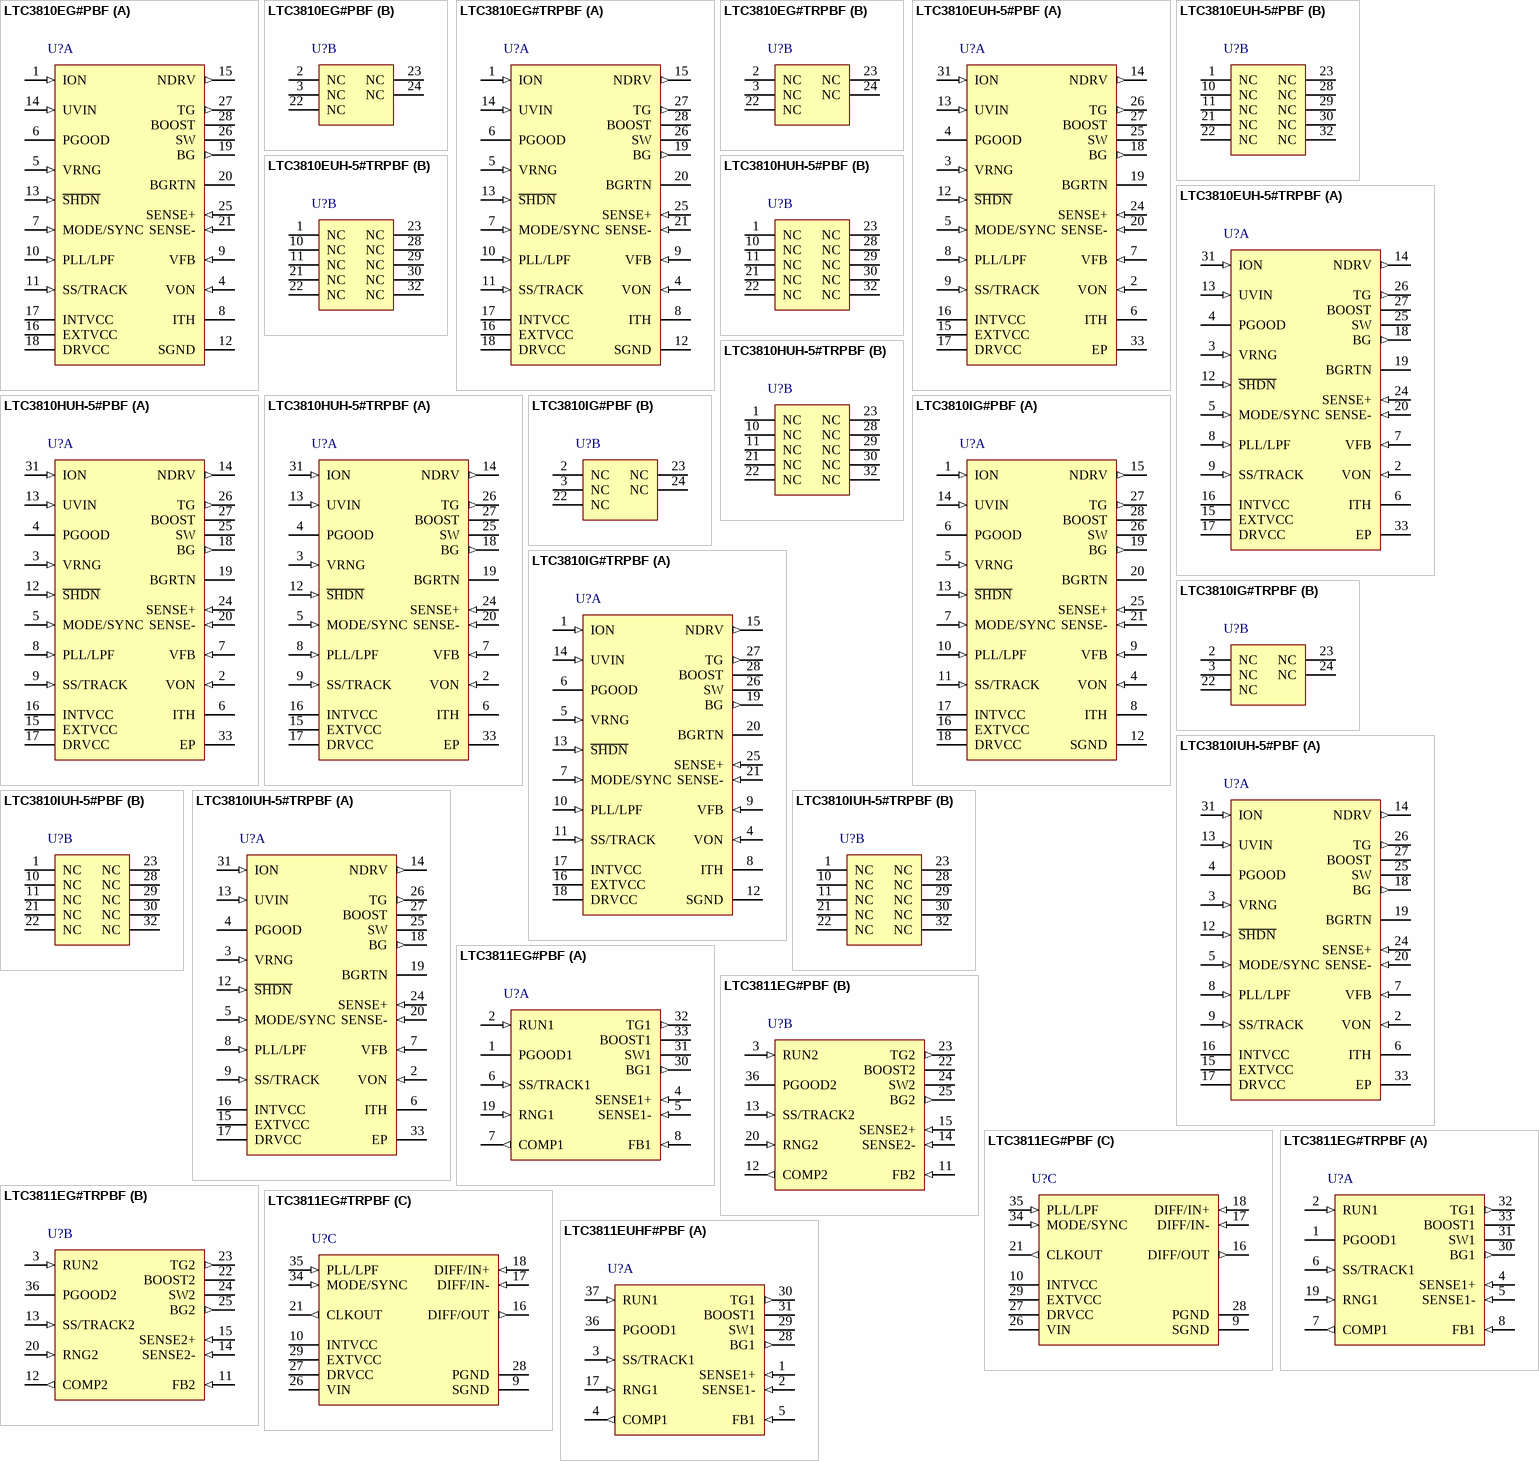
[diagram p78: symbols LTC3810EG#PBF to LTC3811EUHF#PBF]